# EAGLE library part 691701310012B (library WR-TBL Pluggable Connector)
WR-TBL Serie 7013B - 3.81 mm Vertical PCB Header THR Type KIND PROPERTIES Pitch 3.81 mm MATERIAL PROPERTIES Insulator Material LCP Insulator Flammability Rating UL94 V-0 Contact Material Brass Contact Plating Tin GENERAL INFORMATION Operating Temperature -40 up to +105 °C Compliance RoHS ELECTRICAL PROPERTIES IR cULus 10 A Working Voltage [cULus] 300 V (AC) Withstanding Voltage [cULus] 2500 V (AC) Contact Resistance [cULus] 20 mΩ CERTIFICATION cULus Approval E315414 <https://www.we-online.com/catalog/media/o33328v209%20Family_WR-TBL_6917013100xxB.jpg> Details see: https://www.we-online.com/catalog/en/TBL_3_81_THR_7013B_VERTICAL_PCB_HEADER_6917013100XXB/ Updated by Ella Wu 2022-07-25 2022(C) Wurth Elektronik
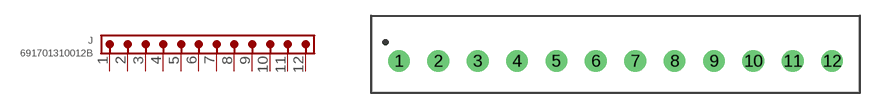
[diagram p55: symbol with the pads of 691701310012B; footprint 691701310012B]

Designator prefix J

## 691701310012B (DATASHEET-URL: https://www.we-online.com/redexpert/spec/691701310012B?ae; IR-UL: 10A; MOUNT: THT; PART-NUMBER: 691701310012B; PINS: 12; PITCH: 3.81mm; TYPE: Vertical; VALUE: 691701310012B; WORKING-VOLTAGE-UL: 300V (AC))  [691701310012B]
1  1  pas
2  2  pas
3  3  pas
4  4  pas
5  5  pas
6  6  pas
7  7  pas
8  8  pas
9  9  pas
10  10  pas
11  11  pas
12  12  pas

## Footprint 691701310012B (pad centres in mm)
WR-TBL Serie 7013B - 3.81 mm Vertical PCB Header THR Type Max Height = 9.2mm , Pitch 3.81mm , 12pins
drill 1.4: 1 -20.955,0; 2 -17.145,0; 3 -13.335,0; 4 -9.525,0; 5 -5.715,0; 6 -1.905,0; 7 1.905,0; 8 5.715,0; 9 9.525,0; 10 13.335,0; 11 17.145,0; 12 20.955,0